# EAGLE library part JOYSTICK (library moudle)
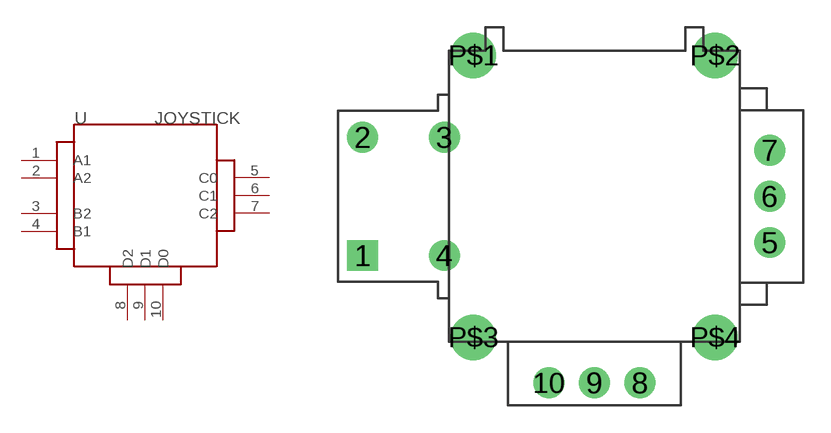
[diagram p6: symbol with the pads of 10P-54.8MM; footprint 10P-54.8MM]

Designator prefix U

## JOYSTICK  [10P-54.8MM]
1  A1
2  A2
3  B2
4  B1
5  C0
6  C1
7  C2
8  D2
9  D1
10  D0

## Footprint 10P-54.8MM (pad centres in mm)
drill 1 pad 1.7 square: 1 -12.75,-3.25
drill 1 pad 1.7: 2 -12.75,3.25; 3 -8.25,3.25; 4 -8.25,-3.25; 5 9.65,-2.54; 6 9.65,0; 7 9.65,2.54; 8 2.5,-10.25; 9 0,-10.25; 10 -2.5,-10.25
drill 1.5 pad 2.5: P$1 -6.65,7.75; P$2 6.65,7.75; P$3 -6.65,-7.75; P$4 6.65,-7.75